# Altium schematic symbol library AD8544.SchLib: 1 symbol
Pins are listed as number, name and electrical type; pins without a type are passive.

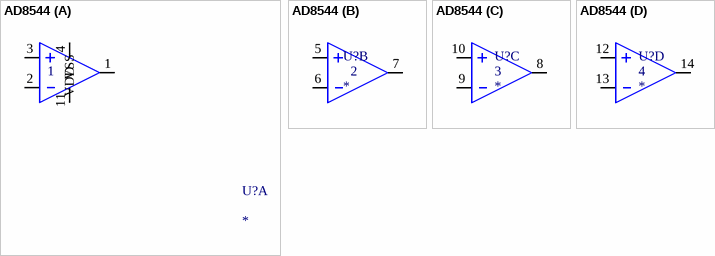
[diagram p0: symbol AD8544]

## AD8544
designator U?
part A pins: 1, 2, 3, 4 VDD (power), 11 VSS (power)
part B pins: 5, 6, 7
part C pins: 8, 9, 10
part D pins: 12, 13, 14